# EAGLE library part 74ALS174N (library 74ALS174)
74ALS174
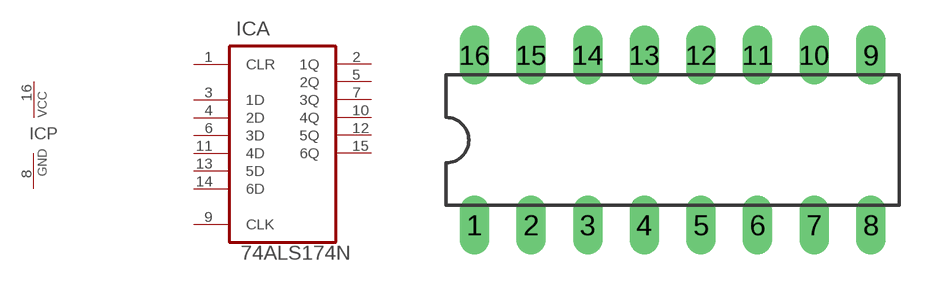
[diagram p0: symbol with the pads of DIL16; footprint DIL16]

Designator prefix IC; gates A=74ALS174N P=PWRN

## 74ALS174N  [DIL16]
1  A:CLR  in
2  A:1Q  out
3  A:1D  in
4  A:2D  in
5  A:2Q  out
6  A:3D  in
7  A:3Q  out
8  P:GND  pwr
9  A:CLK  in
10  A:4Q  out
11  A:4D  in
12  A:5Q  out
13  A:5D  in
14  A:6D  in
15  A:6Q  out
16  P:VCC  pwr

## Footprint DIL16 (pad centres in mm)
Dual In Line Package
drill 0.813 long: 1 -8.89,-3.81; 2 -6.35,-3.81; 3 -3.81,-3.81; 4 -1.27,-3.81; 5 1.27,-3.81; 6 3.81,-3.81; 7 6.35,-3.81; 8 8.89,-3.81; 9 8.89,3.81; 10 6.35,3.81; 11 3.81,3.81; 12 1.27,3.81; 13 -1.27,3.81; 14 -3.81,3.81; 15 -6.35,3.81; 16 -8.89,3.81